# EAGLE library part CS5534 (library cirrus)
24-bit ADC Ultra-low-noise PGIA
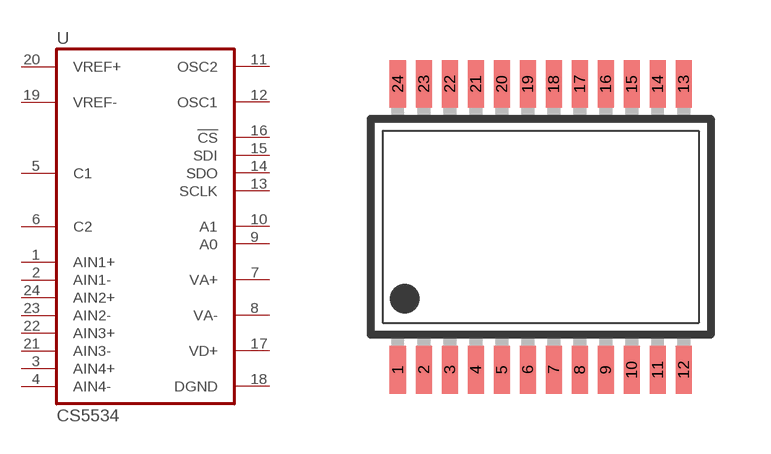
[diagram p18: symbol with the pads of SSOP24W; footprint SSOP24W]

Designator prefix U

## CS5534-AS  [SSOP24W]
1  AIN1+  in
2  AIN1-  in
3  AIN4+  in
4  AIN4-  in
5  C1  in
6  C2  in
7  VA+  pwr
8  VA-  pwr
9  A0  out
10  A1  out
11  OSC2  in
12  OSC1  out
13  SCLK  in
14  SDO  out
15  SDI  in
16  !CS!  in
17  VD+  pwr
18  DGND  pwr
19  VREF-  in
20  VREF+  in
21  AIN3-  in
22  AIN3+  in
23  AIN2-  in
24  AIN2+  in

## Footprint SSOP24W (pad centres in mm)
Small Shrink Outline Package JDEC MO-150, 5.3 mm body
smd 0.4 x 1.2: 1 -3.575,-3.575; 2 -2.925,-3.575; 3 -2.275,-3.575; 4 -1.625,-3.575; 5 -0.975,-3.575; 6 -0.325,-3.575; 7 0.325,-3.575; 8 0.975,-3.575; 9 1.625,-3.575; 10 2.275,-3.575; 11 2.925,-3.575; 12 3.575,-3.575; 13 3.575,3.575; 14 2.925,3.575; 15 2.275,3.575; 16 1.625,3.575; 17 0.975,3.575; 18 0.325,3.575; 19 -0.325,3.575; 20 -0.975,3.575; 21 -1.625,3.575; 22 -2.275,3.575; 23 -2.925,3.575; 24 -3.575,3.575